# EAGLE library part BQ27505-J5_YZG_12 (library Micro2)
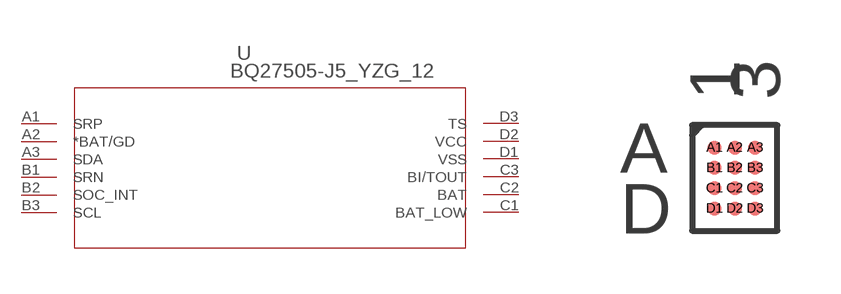
[diagram p12: symbol with the pads of YZG12; footprint YZG12]

Designator prefix U

## BQ27505-J5_YZG_12 (DATASHEETURL: http://www.ti.com/lit/gpn/BQ27505-J5; DESCRIPTION: System-Side Impedance Track Fuel Gauge; FAMILY_NAME: BATTERY FUEL GAUGE; GENERIC_PART_NUMBER: BQ27505-J5; INDUSTRY_STD_PKG_TYPE: DSBGA; MANUFACTURER: Texas Instruments; PACKAGE_DESIGNATOR: YZG; PIN_COUNT: 12)  [YZG12]
A1  SRP  in
A2  *BAT/GD  out
A3  SDA
B1  SRN  in
B2  SOC_INT
B3  SCL  in
C1  BAT_LOW  out
C2  BAT  in
C3  BI/TOUT
D1  VSS  pwr
D2  VCC  pwr
D3  TS  in

## Footprint YZG12 (pad centres in mm)
smd 0.356 x 0.356: A1 -0.508,0.762; A2 0,0.762; A3 0.508,0.762; B1 -0.508,0.254; B2 0,0.254; B3 0.508,0.254; C1 -0.508,-0.254; C2 0,-0.254; C3 0.508,-0.254; D1 -0.508,-0.762; D2 0,-0.762; D3 0.508,-0.762